# EAGLE library part ATTINY-X5 (library PiB_ic_microcontrollers)
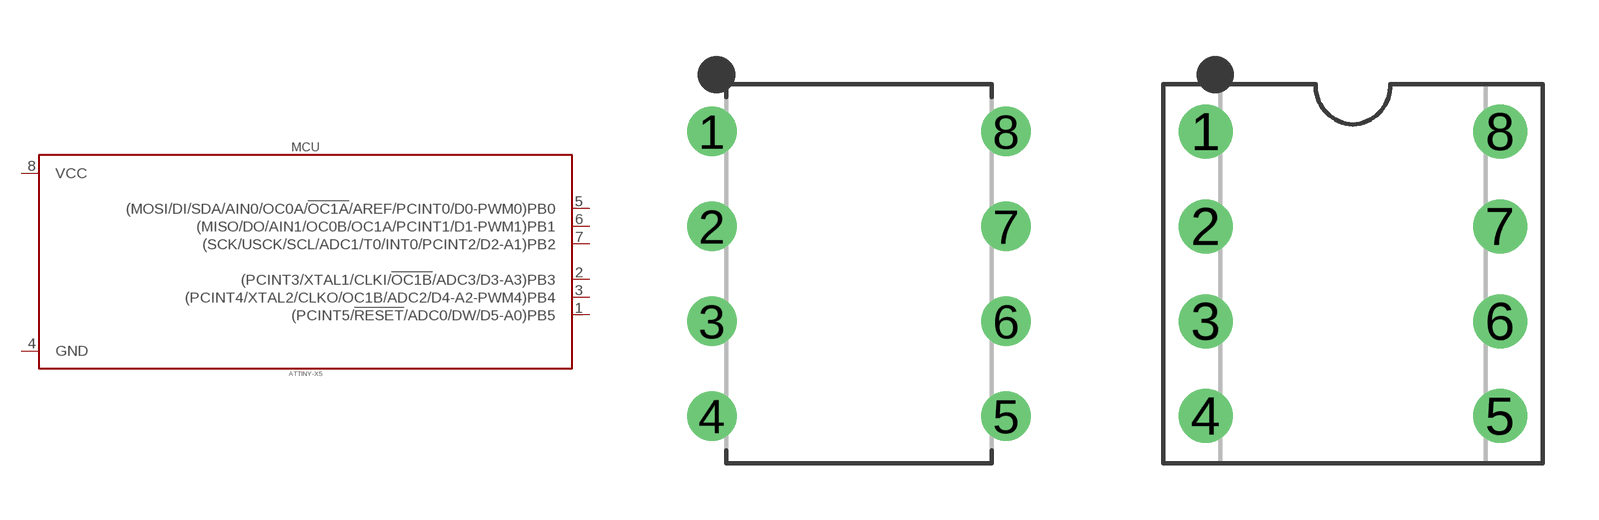
[diagram p5: symbol with the pads of DIP787W45P254L958H533Q8B_DIP-8_ATTINY-X5; footprints DIP787W45P254L958H533Q8B_DIP-8_ATTINY-X5, DIP787W45P254L831H533Q8B_DIP-8_CONNECTOR]

Designator prefix MCU

## ATTINY-X5_DIP-8_ATTINY-85 (DATASHEET: http://www.microchip.com/mymicrochip/filehandler.aspx?ddocname=en589893; DIST: Digikey; DISTLINK: https://www.digikey.com/products/en?keywords=ATTINY85-20PU-ND; DISTPN: ATTINY85-20PU-ND; MFR: Microchip Technology; MPN: ATTINY85-20PU; VALUE: ATtiny85)  [DIP787W45P254L958H533Q8B_DIP-8_ATTINY-X5]
1  (PCINT5/!RESET!/ADC0/DW/D5-A0)PB5
2  (PCINT3/XTAL1/CLKI/!OC1B!/ADC3/D3-A3)PB3
3  (PCINT4/XTAL2/CLKO/OC1B/ADC2/D4-A2-PWM4)PB4
4  GND  sup
5  (MOSI/DI/SDA/AIN0/OC0A/!OC1A!/AREF/PCINT0/D0-PWM0)PB0
6  (MISO/DO/AIN1/OC0B/OC1A/PCINT1/D1-PWM1)PB1
7  (SCK/USCK/SCL/ADC1/T0/INT0/PCINT2/D2-A1)PB2
8  VCC  sup

## ATTINY-X5_DIP-8_ATTINY-85_CONNECTOR (DATASHEET: http://www.microchip.com/mymicrochip/filehandler.aspx?ddocname=en589893; DATASHEET_CONNECTOR: http://www.assmann-wsw.com/fileadmin/datasheets/ASS_0810_CO.pdf; DIST: Digikey; DISTLINK: https://www.digikey.com/products/en?keywords=ATTINY85-20PU-ND; DISTLINK_CONNECTOR: https://www.digikey.com/products/en?keywords=AE9986-ND; DISTPN: ATTINY85-20PU-ND; DISTPN_CONNECTOR: AE9986-ND; DIST_CONNECTOR: Digikey; MFR: Microchip Technology; MFR_CONNECTOR: Assmann WSW Components; MPN: ATTINY85-20PU; MPN_CONNECTOR: A 08-LC-TT; VALUE: ATtiny85)  [DIP787W45P254L831H533Q8B_DIP-8_CONNECTOR]
Pads as for DIP787W45P254L958H533Q8B_DIP-8_ATTINY-X5

## ATTINY-X5_SO-8_ATTINY-85V (DATASHEET: http://ww1.microchip.com/downloads/en/DeviceDoc/Atmel-2586-AVR-8-bit-Microcontroller-ATtiny25-ATtiny45-ATtiny85_Datasheet-Summary.pdf; DIST: Digikey; DISTLINK: https://www.digikey.com/products/en?keywords=ATTINY85V-10SU-ND; DISTPN: ATTINY85V-10SU-ND; MFR: Microchip Technology; MPN: ATTINY85V-10SU; VALUE: ATtiny85V)  [SOIC127P798X216-8]
Pads as for DIP787W45P254L958H533Q8B_DIP-8_ATTINY-X5

## Footprint DIP787W45P254L958H533Q8B_DIP-8_ATTINY-X5 (pad centres in mm)
8-DIP, 2.54 mm (0.10 in) pitch, 7.874 mm (0.31 in) span, 9.5885 X 6.604 X 5.334 mm body 8-pin DIP package with 2.54 mm (0.10 in) pitch, 7.874 mm (0.31 in) span with body size 9.5885 X 6.604 X 5.334 mm
drill 0.723 pad 1.323: 1 -3.937,3.81; 2 -3.937,1.27; 3 -3.937,-1.27; 4 -3.937,-3.81; 5 3.937,-3.81; 6 3.937,-1.27; 7 3.937,1.27; 8 3.937,3.81

## Footprint DIP787W45P254L831H533Q8B_DIP-8_CONNECTOR (pad centres in mm)
8-DIP, 2.54 mm (0.10 in) pitch, 7.874 mm (0.31 in) span, 8.3185 X 6.604 X 5.334 mm body 8-pin DIP package with 2.54 mm (0.10 in) pitch, 7.874 mm (0.31 in) span with body size 8.3185 X 6.604 X 5.334 mm
drill 0.723 pad 1.446: 1 -3.937,3.81; 2 -3.937,1.27; 3 -3.937,-1.27; 4 -3.937,-3.81; 5 3.937,-3.81; 6 3.937,-1.27; 7 3.937,1.27; 8 3.937,3.81

## Footprint SOIC127P798X216-8 (pad centres in mm)
8-SOIC, 1.27 mm pitch, 7.98 mm span, 5.24 X 5.29 X 2.16 mm body 8-pin SOIC package with 1.27 mm pitch, 7.98 mm span with body size 5.24 X 5.29 X 2.16 mm
smd 1.714 x 0.582: 1 -3.628,1.905; 2 -3.628,0.635; 3 -3.628,-0.635; 4 -3.628,-1.905; 5 3.628,-1.905; 6 3.628,-0.635; 7 3.628,0.635; 8 3.628,1.905